# EAGLE library part MRF24J40MB (library microchip_mrf24j40mb)
mrf24j40mb
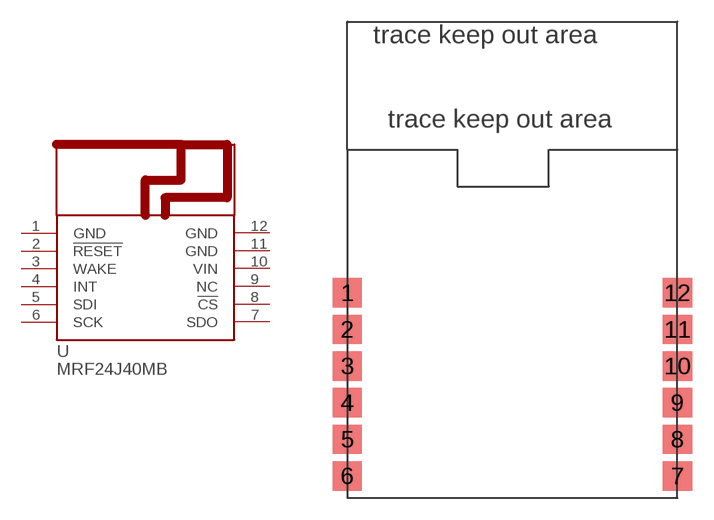
[diagram p0: symbol with the pads of MRF24J40MB; footprint MRF24J40MB]

Designator prefix -

## MRF24J40MB  [MRF24J40MB]
1  GND
2  !RESET
3  WAKE
4  INT
5  SDI
6  SCK
7  SDO
8  !CS
9  NC
10  VIN
11  GND
12  GND

## Footprint MRF24J40MB (pad centres in mm)
mrf24j40mb
smd 2.032 x 2.032: 1 -11.43,2.794; 2 -11.43,0.254; 3 -11.43,-2.286; 4 -11.43,-4.826; 5 -11.43,-7.366; 6 -11.43,-9.906; 7 11.43,-9.906; 8 11.43,-7.366; 9 11.43,-4.826; 10 11.43,-2.286; 11 11.43,0.254; 12 11.43,2.794